# EAGLE library part BALUN (library CU in Space)
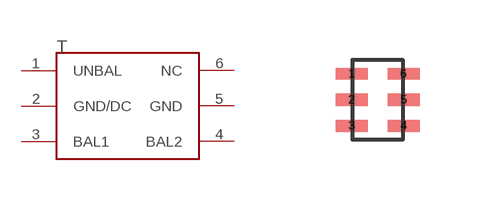
[diagram p3: symbol with the pads of BALUN; footprint BALUN]

Designator prefix T

## BALUN  [BALUN]
1  UNBAL
2  GND/DC
3  BAL1
4  BAL2
5  GND
6  NC

## Footprint BALUN (pad centres in mm)
smd 0.8 x 0.3: 1 0.4,1.45; 2 0.4,0.8; 3 0.4,0.15; 4 1.7,0.15; 5 1.7,0.8; 6 1.7,1.45